# Altium footprint library pcb_library.PcbLib: 23 footprints (part 2 of 2)
Each footprint in its own frame and in the unit in brackets; x right, y up, seen from the top. Pads: shape width x height; smd on the part's side, far side on the other; paste and mask are expansions set on the pad; w line width, h text height; cw(c..) or ccw(c..) is an arc to the next point about the centre after c.
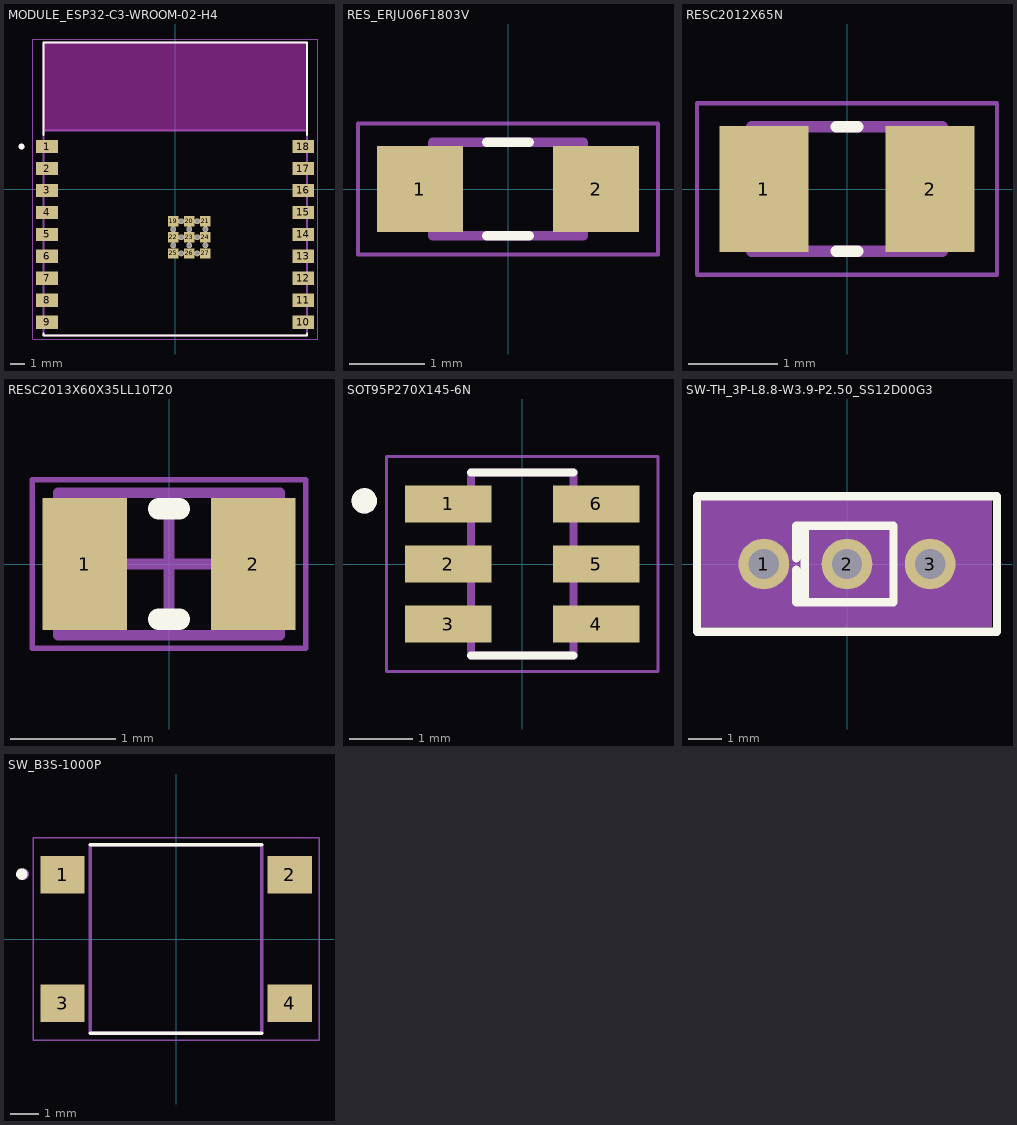
[diagram p1: the footprints below, top view; thin cyan lines are the x and y axes]

## MODULE_ESP32-C3-WROOM-02-H4 [mm]
pads (39):
  rect 1.5x0.9 smd: 1(-8.75,2.9) 2(-8.75,1.4) 3(-8.75,-0.1) 4(-8.75,-1.6) 5(-8.75,-3.1) 6(-8.75,-4.6) 7(-8.75,-6.1) 8(-8.75,-7.6) 9(-8.75,-9.1) 10(8.75,-9.1) 11(8.75,-7.6) 12(8.75,-6.1) 13(8.75,-4.6) 14(8.75,-3.1) 15(8.75,-1.6) 16(8.75,-0.1) 17(8.75,1.4) 18(8.75,2.9)
  rect 0.7x0.7 smd: 19(-0.14,-2.2) 20(0.96,-2.2) 21(2.06,-2.2) 22(-0.14,-3.3) 23(0.96,-3.3) 24(2.06,-3.3) 25(-0.14,-4.4) 26(0.96,-4.4) 27(2.06,-4.4)
  round 0.4 hole 0.3 mask+0: 28(0.41,-2.2) 29(1.51,-2.2) 30(-0.14,-2.75) 31(0.96,-2.75) 32(2.06,-2.75) 33(0.41,-3.3) 34(1.51,-3.3) 35(-0.14,-3.85) 36(0.96,-3.85) 37(2.06,-3.85) 38(0.41,-4.4) 39(1.51,-4.4)
Top Overlay:
  circle w0.2: c-10.5,2.9 r0.1
  lines w0.127: -9,-9.87 -9,-10 9,-10 9,-9.87 ; -9,3.67 -9,10 9,10 9,3.67
Keep-Out Layer:
  region: 9,4 -9,4 -9,10 9,10
  region: 9,4 -9,4 -9,10 9,10
Mechanical 13:
  circle w0.2: c-10.5,2.9 r0.1
  lines w0.127: -9,4 -9,10 9,10 9,4 ; -9,4 -9,-10 9,-10 9,4 ; -9,4 9,4
Mechanical 15:
  lines w0.05: -9.75,-10.25 -9.75,10.25 9.75,10.25 9.75,-10.25 -9.75,-10.25
3D body "step_temp.STEP": height 3.35, standoff 0, extent -9,-10 9,10

## RES_ERJU06F1803V [mm]
pads (2):
  rect 1.15x1.15 smd: 1(-1.175,0) 2(1.175,0)
Top Overlay:
  lines w0.127: -0.28,-0.625 0.28,-0.625 ; -0.28,0.625 0.28,0.625
Mechanical 13:
  lines w0.127: -1,-0.625 1,-0.625 1,0.625 -1,0.625 -1,-0.625
Mechanical 15:
  lines w0.05: -2,-0.875 2,-0.875 2,0.875 -2,0.875 -2,-0.875

## RESC2012X65N [mm]
pads (2):
  rect 1x1.42 smd paste+0 mask+0.102: 1(-0.935,0) 2(0.935,0)
Top Overlay:
  lines w0.127: -0.12,-0.7 0.12,-0.7 ; -0.12,0.7 0.12,0.7
Mechanical 13:
  lines w0.127: -1.07,-0.7 1.07,-0.7 1.07,0.7 -1.07,0.7 -1.07,-0.7
Mechanical 15:
  lines w0.05: -1.685,-0.962 1.685,-0.962 1.685,0.962 -1.685,0.962 -1.685,-0.962
3D body "step_temp.STEP": height 0.65, standoff 0, extent -1,-0.625 1,0.625

## RESC2013X60X35LL10T20 [mm] "Chip Resistor, 2-Leads, Body 2.00x1.25mm, IPC High Density"
height 0.6
pads (2):
  rect 0.8x1.25 smd: 1(-0.8,0) 2(0.8,0)
Top Overlay:
  lines w0.2: -0.1,-0.525 0.1,-0.525 ; -0.1,0.525 0.1,0.525
Mechanical 13:
  lines w0.1: -1.05,-0.675 1.05,-0.675 1.05,0.675 -1.05,0.675 -1.05,-0.675
Mechanical 15:
  lines w0.05: -1.3,-0.8 1.3,-0.8 1.3,0.8 -1.3,0.8 -1.3,-0.8
  lines w0.1: -0.5,0 0.5,0 ; 0,-0.5 0,0.5
3D body: height 0.6, standoff 0, extent 0.7,-0.675 1.05,0.675
3D body: height 0.6, standoff 0, extent -1.05,-0.675 -0.7,0.675
3D body: height 0.6, standoff 0, extent -0.7,-0.675 0.7,0.675

## SOT95P270X145-6N [mm]
pads (6):
  rect 1.37x0.59 smd: 1(-1.17,0.95) 2(-1.17,0) 3(-1.17,-0.95) 4(1.17,-0.95) 5(1.17,0) 6(1.17,0.95)
Top Overlay:
  circle w0.2: c-2.5,1 r0.1
  lines w0.127: -0.81,-1.45 0.81,-1.45 ; -0.81,1.45 0.81,1.45
Mechanical 13:
  circle w0.2: c-2.5,1 r0.1
  lines w0.127: -0.813,-1.45 0.813,-1.45 0.813,1.45 -0.813,1.45 -0.813,-1.45
Mechanical 15:
  lines w0.05: -2.15,-1.7 2.15,-1.7 2.15,1.7 -2.15,1.7 -2.15,-1.7
3D body "step_temp.STEP": height 1.45, standoff 0, extent -1.35,-1.45 1.35,1.45

## SW-TH_3P-L8.8-W3.9-P2.50_SS12D00G3 [mil]
pads (3):
  round 60 hole 36 paste-99999 mask+2: 1(-98.4,0) 2(0,0) 3(98.4,0)
Top Overlay:
  lines w10: -60,-6.8 -60,-45 -50,-45 ; -60,6.8 -60,45 -46.6,45 ; -50,-45 -50,45 55,45 55,-45 -50,-45 ; -177.5,-80 -177.5,80 177.5,80 177.5,-80 -177.5,-80
Top Assembly:
  region: -45,-40 -35,-40 -35,45 -45,45
  region: -65,-40 50,-40 50,40 -55,40 -55,50 55,50 60,50 60,-50 -65,-50
  region: -65,-45 -65,50 -55,50 -55,-40 -60,-40
Mechanical 9:
  region: -175,-75 -175,78.5 171.5,78.5 171.5,-75
Mechanical 11:
  region: -173.8,-75 -174.2,-75.8 -175,-76.2 -175.8,-75.8 -176.2,-75 -175.8,-74.2 -175,-73.8 -174.2,-74.2
Mechanical 12:
  region: 88.6,5.9 108.3,5.9 108.3,-5.9 88.6,-5.9
  region: -9.8,5.9 9.8,5.9 9.8,-5.9 -9.8,-5.9
  region: -108.3,5.9 -88.6,5.9 -88.6,-5.9 -108.3,-5.9

## SW_B3S-1000P [mm]
height 4.3
pads (4):
  rect 1.55x1.3 smd: 1(-3.975,2.25) 2(3.975,2.25) 3(-3.975,-2.25) 4(3.975,-2.25)
Top Overlay:
  circle w0.2: c-5.4,2.27 r0.1
  lines w0.127: -3,-3.3 3,-3.3 ; -3,3.3 3,3.3
Mechanical 13:
  circle w0.2: c-5.347,2.27 r0.1
  lines w0.127: -3,-3.3 3,-3.3 3,3.3 -3,3.3 -3,-3.3
Mechanical 15:
  lines w0.05: -5,-3.55 5,-3.55 5,3.55 -5,3.55 -5,-3.55